# Altium schematic symbol library SCH - ANALOG SWITCH - NXP NX3L1T3157.SchLib: 1 symbol
Pins are listed as number, name and electrical type; pins without a type are passive.

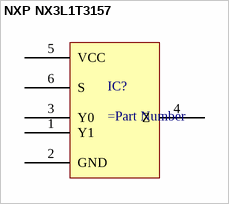
[diagram p0: symbol NXP NX3L1T3157]

## NXP NX3L1T3157
designator IC?
pins: 1 Y1, 2 GND, 3 Y0, 4 Z, 5 VCC, 6 S